# Altium schematic symbol library 4-Diode_lib.SchLib: 11 symbols
Pins are listed as number, name and electrical type; pins without a type are passive.

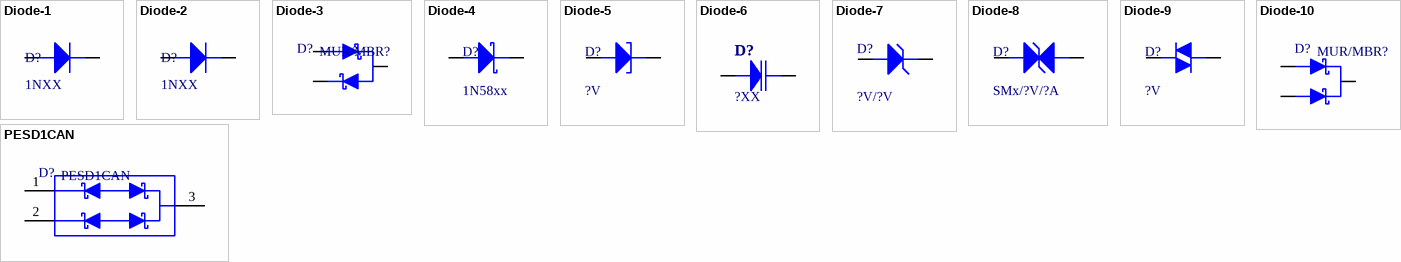
[diagram p0: symbols Diode-1 to PESD1CAN]

## Diode-1
designator D?, comment 1NXX
贴片式普通二极管; 版本: 2015-V1.0; 价格: 0.5; 精度: X; 品名: 贴片二极管; Value: 1NXX
footprint DIODE-SMA (贴片二极管)
footprint DIODE-SMB (贴片二极管)
footprint DIODE-SMC (贴片二极管)
footprint DIODE-1206 (玻璃封装二极管)
footprint D_6A/1000V
pins: 1, 2

## Diode-2
designator D?, comment 1NXX
直插式普通二极管; 版本: 2015-V1.0; 价格: 0.5; 精度: X; 品名: 直插二极管; Value: 1NXX
footprint DIODE-AXL (直插二极管)
footprint DO-41
pins: 1, 2

## Diode-3
designator D?, comment MUR/MBR?
双肖特基二极管（小信号）
footprint SOT-23-3
pins: 1 A, 2 K, 3 A

## Diode-4
designator D?, comment 1N58xx
贴片式肖特基二极管
footprint SMB-CA (TVS瞬变稳压二极管)
pins: 1, 2

## Diode-5
designator D?, comment ?V
隧道二极管; Text Field1: 20; Text Field2: 20
footprint D1206
pins: 1, 2

## Diode-6
designator D?, comment ?XX
变容二极管
pins: 1, 2

## Diode-7
designator D?, comment ?V/?V
稳压二极管，齐纳二极管
footprint SOD-123_1206
pins: 1, 2

## Diode-8
designator D?, comment SMx/?V/?A
瞬态抑制二极管
footprint DIODE-SMA (贴片二极管)
pins: 1, 2

## Diode-9
designator D?, comment ?V
双向触发二极管
footprint DIODE-AXL (直插二极管)
pins: 1, 2

## Diode-10
designator D?, comment MUR/MBR?
共阴开关二极管
footprint TO-220
pins: 1 A, 2 K, 3 A

## PESD1CAN
designator D?
总线瞬态抑制二极管
footprint SOT-23P
pins: 1 A, 2 A, 3 K